# EAGLE library part DF12(*)-36DS-0.5V (library hirose-df12)
0.5mm Pitch SMT Board to Board Connector Source: http://www.hirose.co.jp/catalogj_hp/jd_DF12_20131205.pdf http://www.hirose.co.jp/cataloge_hp/en_DF12_20130411.pdf
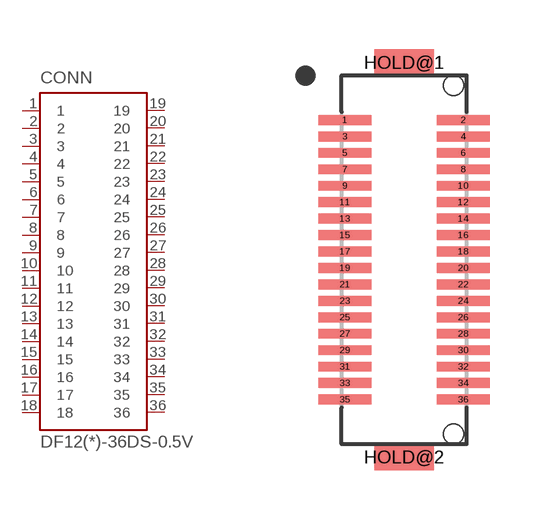
[diagram p45: symbol with the pads of DF12(*)-36DS-0.5V; footprint DF12(*)-36DS-0.5V]

Designator prefix CONN

## DF12(3.0)-36DS-0.5V, DF12(3.5)-36DS-0.5V, DF12(4.0)-36DS-0.5V, DF12(5.0)-36DS-0.5V  [DF12(*)-36DS-0.5V]
1  1
2  2
3  3
4  4
5  5
6  6
7  7
8  8
9  9
10  10
11  11
12  12
13  13
14  14
15  15
16  16
17  17
18  18
19  19
20  20
21  21
22  22
23  23
24  24
25  25
26  26
27  27
28  28
29  29
30  30
31  31
32  32
33  33
34  34
35  35
36  36

## Footprint DF12(*)-36DS-0.5V (pad centres in mm)
smd 1.6 x 0.3: 1 -1.8,4.25; 2 1.8,4.25; 3 -1.8,3.75; 4 1.8,3.75; 5 -1.8,3.25; 6 1.8,3.25; 7 -1.8,2.75; 8 1.8,2.75; 9 -1.8,2.25; 10 1.8,2.25; 11 -1.8,1.75; 12 1.8,1.75; 13 -1.8,1.25; 14 1.8,1.25; 15 -1.8,0.75; 16 1.8,0.75; 17 -1.8,0.25; 18 1.8,0.25; 19 -1.8,-0.25; 20 1.8,-0.25; 21 -1.8,-0.75; 22 1.8,-0.75; 23 -1.8,-1.25; 24 1.8,-1.25; 25 -1.8,-1.75; 26 1.8,-1.75; 27 -1.8,-2.25; 28 1.8,-2.25; 29 -1.8,-2.75; 30 1.8,-2.75; 31 -1.8,-3.25; 32 1.8,-3.25; 33 -1.8,-3.75; 34 1.8,-3.75; 35 -1.8,-4.25; 36 1.8,-4.25
smd 1.8 x 0.8: HOLD@1 0,6; HOLD@2 0,-6
hole 0.6 at 1.5,5.3
hole 0.6 at 1.5,-5.3